# Altium integrated library 4pin2.54mm.IntLib: 1 symbol
Pins are listed as number, name and electrical type; pins without a type are passive.

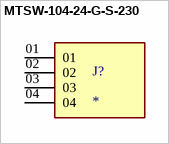
[diagram p0: symbol MTSW-104-24-G-S-230]

## MTSW-104-24-G-S-230
designator J?
MP: MTSW-104-24-G-S-230; Price: None; Value: *; Package: None; Availability: Unavailable
footprint SAMTEC_MTSW-104-24-G-S-230
pins: 01, 02, 03, 04